# EAGLE library part 2520- (library con-3m)
3M (TM) Pak 100 4-Wall Header 3M (TM) .100" x .100" 4-Wall Header, Low Profile, D2500 Series -5: Right angle, through hole -6: Straight (vertical), through hole -6V: Straight (vertical), surface mount Source: 3M
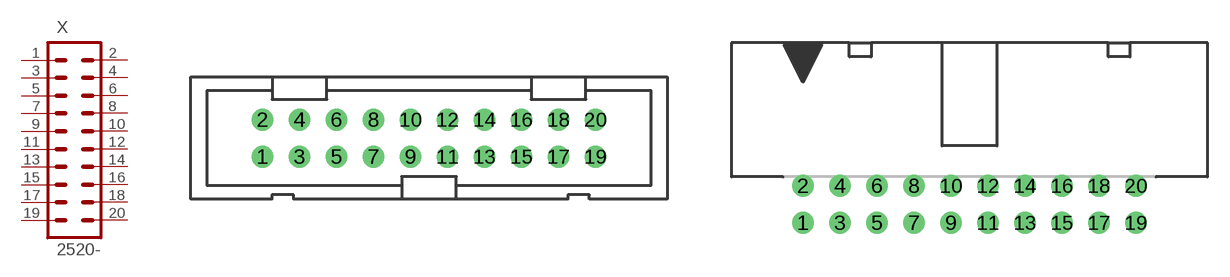
[diagram p29: symbol with the pads of PAK100/2500-20; footprints PAK100/2500-20, PAK100/2500-5-20]

Designator prefix X

## 2520-6  [PAK100/2500-20]
1  1  pas
2  2  pas
3  3  pas
4  4  pas
5  5  pas
6  6  pas
7  7  pas
8  8  pas
9  9  pas
10  10  pas
11  11  pas
12  12  pas
13  13  pas
14  14  pas
15  15  pas
16  16  pas
17  17  pas
18  18  pas
19  19  pas
20  20  pas

## 2520-5  [PAK100/2500-5-20]
Pads as for PAK100/2500-20

## 2520-6V  [PAK100/2500-6V-20]
Pads as for PAK100/2500-20

## Footprint PAK100/2500-20 (pad centres in mm)
3M (TM) Pak 100 4-Wall Header Straight Source: 3M
drill 1 pad 1.422 round: 1 -11.43,-1.27; 2 -11.43,1.27; 3 -8.89,-1.27; 4 -8.89,1.27; 5 -6.35,-1.27; 6 -6.35,1.27; 7 -3.81,-1.27; 8 -3.81,1.27; 9 -1.27,-1.27; 10 -1.27,1.27; 11 1.27,-1.27; 12 1.27,1.27; 13 3.81,-1.27; 14 3.81,1.27; 15 6.35,-1.27; 16 6.35,1.27; 17 8.89,-1.27; 18 8.89,1.27; 19 11.43,-1.27; 20 11.43,1.27

## Footprint PAK100/2500-5-20 (pad centres in mm)
3M (TM) Pak 100 4-Wall Header Right Angle Source: 3M
drill 1 pad 1.422 round: 1 -11.43,-1.27; 2 -11.43,1.27; 3 -8.89,-1.27; 4 -8.89,1.27; 5 -6.35,-1.27; 6 -6.35,1.27; 7 -3.81,-1.27; 8 -3.81,1.27; 9 -1.27,-1.27; 10 -1.27,1.27; 11 1.27,-1.27; 12 1.27,1.27; 13 3.81,-1.27; 14 3.81,1.27; 15 6.35,-1.27; 16 6.35,1.27; 17 8.89,-1.27; 18 8.89,1.27; 19 11.43,-1.27; 20 11.43,1.27

## Footprint PAK100/2500-6V-20 (pad centres in mm)
3M (TM) Pak 100 4-Wall Header Straight Source: 3M
smd 1.27 x 5.08: 1 -11.43,-3.429; 2 -11.43,3.429; 3 -8.89,-3.429; 4 -8.89,3.429; 5 -6.35,-3.429; 6 -6.35,3.429; 7 -3.81,-3.429; 8 -3.81,3.429; 9 -1.27,-3.429; 10 -1.27,3.429; 11 1.27,-3.429; 12 1.27,3.429; 13 3.81,-3.429; 14 3.81,3.429; 15 6.35,-3.429; 16 6.35,3.429; 17 8.89,-3.429; 18 8.89,3.429; 19 11.43,-3.429; 20 11.43,3.429